# EAGLE library part ZIF10-05 (library JLB6_Connec)
FPC Zif 10 pins 0,5mm Omron, molex
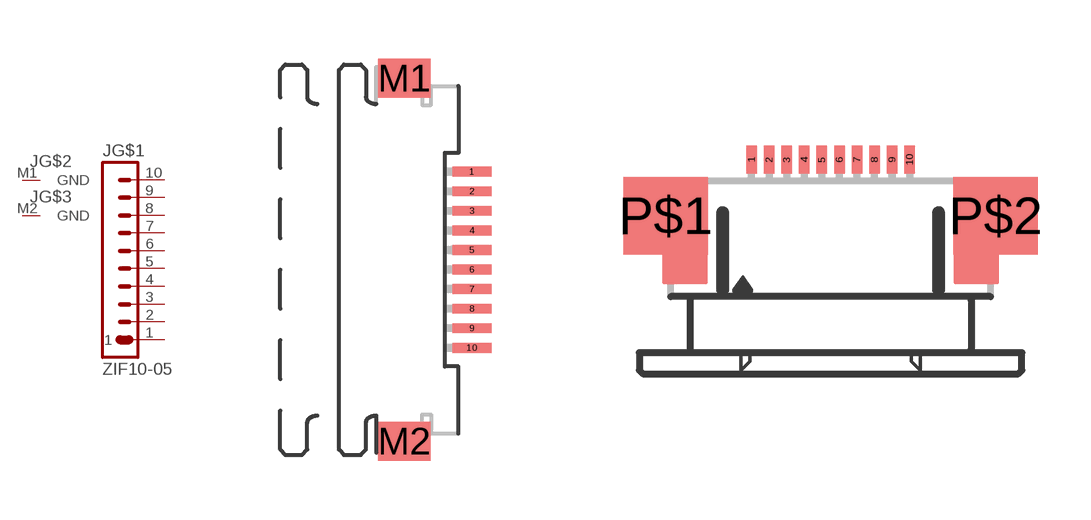
[diagram p82: symbol with the pads of XF2L-1035-1; footprints XF2L-1035-1, 52745-1090-J]

Designator prefix J; gates G$1=1X10 G$2=GND G$3=GND

## ZIF10-05OMRON  [XF2L-1035-1]
1  G$1:1  pas
2  G$1:2  pas
3  G$1:3  pas
4  G$1:4  pas
5  G$1:5  pas
6  G$1:6  pas
7  G$1:7  pas
8  G$1:8  pas
9  G$1:9  pas
10  G$1:10  pas
M1  G$2:GND  pwr
M2  G$3:GND  pwr

## ZIF10-05MOLEX1  [52745-1090-J]
1  G$1:1  pas
2  G$1:2  pas
3  G$1:3  pas
4  G$1:4  pas
5  G$1:5  pas
6  G$1:6  pas
7  G$1:7  pas
8  G$1:8  pas
9  G$1:9  pas
10  G$1:10  pas
P$1  G$2:GND  pwr
P$2  G$3:GND  pwr

## ZIF10-05MOLEX2  [52746-1071-J]
Pads as for 52745-1090-J

## Footprint XF2L-1035-1 (pad centres in mm)
ZIF Slide-locking Type (0.5 mm-pitch) Lower-contact Type Source : http://www.omron.com/ecb/products/pdf/fpc.pdf
smd 1 x 0.25: 1 1.905,2.25; 2 1.905,1.75; 3 1.905,1.25; 4 1.905,0.75; 5 1.905,0.25; 6 1.905,-0.25; 7 1.905,-0.75; 8 1.905,-1.25; 9 1.905,-1.75; 10 1.905,-2.25
smd 1.34 x 1: M1 0.18,4.638; M2 0.18,-4.638

## Footprint 52745-1090-J (pad centres in mm)
FFC/FPC-to-Board 0.50mm (.020") SMT Top or bottom Contact Right Angle, ZIF, Style Receptacle 52745 / 52435 Source: http://www.molex.com/product/ffc/52745.html modified JLB : 2 GND pads
smd 0.3 x 0.8: 1 -2.25,2.5; 2 -1.75,2.5; 3 -1.25,2.5; 4 -0.75,2.5; 5 -0.25,2.5; 6 0.25,2.5; 7 0.75,2.5; 8 1.25,2.5; 9 1.75,2.5; 10 2.25,2.5
smd 2.4 x 2.2: P$1 -4.7,0.9; P$2 4.7,0.9

## Footprint 52746-1071-J (pad centres in mm)
connecteur FFC Zif 0,5mm 10p Molex 52746-1071
smd 0.3 x 0.8: 1 -2.25,2.5; 2 -1.75,2.5; 3 -1.25,2.5; 4 -0.75,2.5; 5 -0.25,2.5; 6 0.25,2.5; 7 0.75,2.5; 8 1.25,2.5; 9 1.75,2.5; 10 2.25,2.5
smd 2.4 x 2.2: P$1 -4.7,0.9; P$2 4.7,0.9
smd 1.2 x 0.9: P$3 4.1,-0.65; P$5 -4.1,-0.65